# Altium footprint library 43045_0401.PcbLib: 1 footprints
Each footprint in its own frame and in the unit in brackets; x right, y up, seen from the top. Pads: shape width x height; smd on the part's side, far side on the other; paste and mask are expansions set on the pad; w line width, h text height; cw(c..) or ccw(c..) is an arc to the next point about the centre after c.
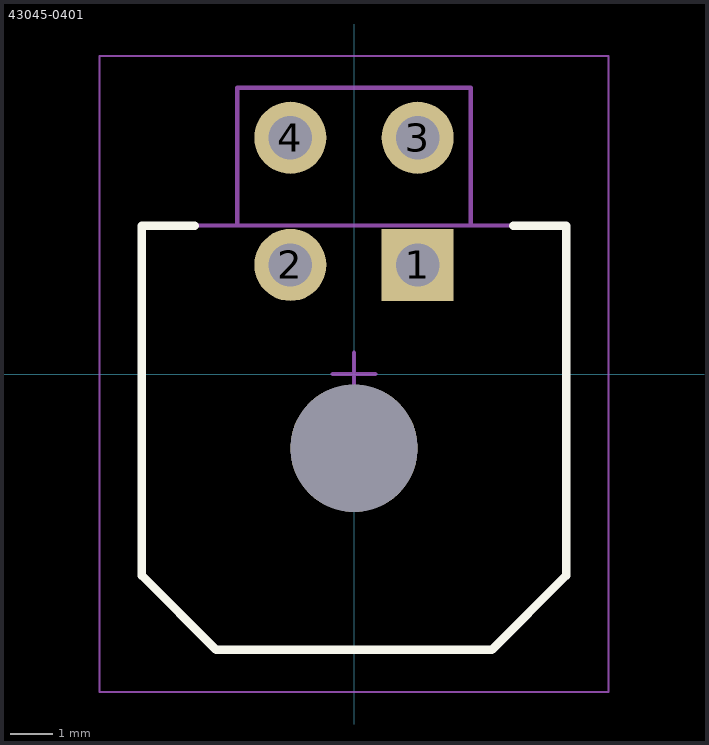
[diagram p0: the footprint, top view; thin cyan lines are the x and y axes]

## 43045-0401 [mm] "Micro-Fit 3.0 4 pin Header, Pitch 3,00mm, Dual Row, Right-Angle"
height 8.8
pads (5):
  rect 1.7x1.7 hole 1.02: 1(1.5,2.57)
  round 1.7 hole 1.02: 2(-1.5,2.57) 3(1.5,5.57) 4(-1.5,5.57)
  round 3 hole 3 unplated: ""(0,-1.75)
Top Overlay:
  lines w0.2: -3.75,3.5 -5,3.5 -5,-4.75 -3.25,-6.5 3.25,-6.5 5,-4.75 5,3.5 3.75,3.5
Top Comment:
  text ".Comment" at 1.25,8 h1.2
Top Designator:
  text ".Designator" at -0.5,8 h1.2
Top Component Outline:
  lines w0.1: -2.75,3.5 -2.75,6.75 2.75,6.75 2.75,3.5 ; -5,-4.75 -5,3.5 5,3.5 5,-4.75 3.25,-6.5 -3.25,-6.5 -5,-4.75
Top Courtyard (Mech15):
  lines w0.05: -6,-7.5 -6,7.5 6,7.5 6,-7.5 -6,-7.5
  lines w0.1: -0.5,0 0.5,0 ; 0,-0.5 0,0.5
3D body "43045-0401.STEP": height 8.83, standoff -3.12, extent -5.075,-6.405 5.075,5.835